# EAGLE library part LSM6DS33_IMU (library gen433)
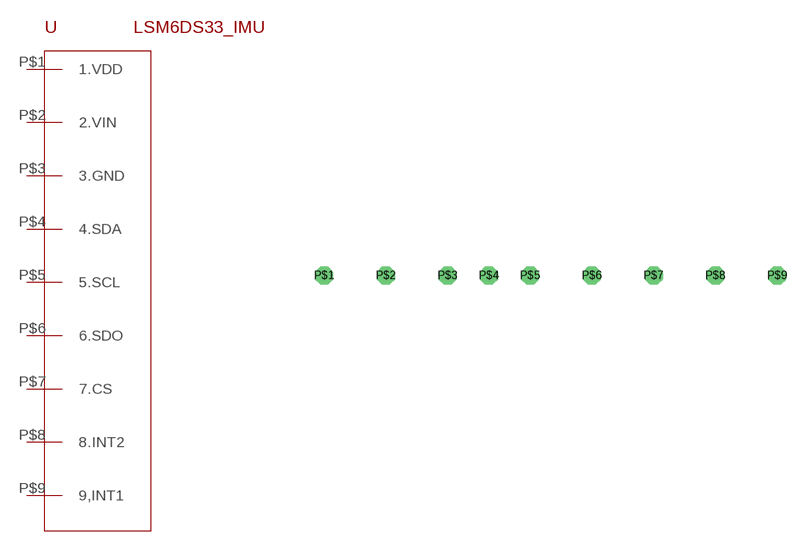
[diagram p4: symbol with the pads of LSM6DS33_IMU; footprint LSM6DS33_IMU]

Designator prefix -

## LSM6DS33_IMU  [LSM6DS33_IMU]
P$1  1.VDD
P$2  2.VIN
P$3  3.GND
P$4  4.SDA
P$5  5.SCL
P$6  6.SDO
P$7  7.CS
P$8  8.INT2
P$9  9,INT1

## Footprint LSM6DS33_IMU (pad centres in mm)
drill 0.6 octagon: P$1 -12.7,3.81; P$2 -8.89,3.81; P$3 -5.08,3.81; P$4 -2.54,3.81; P$5 0,3.81; P$6 3.81,3.81; P$7 7.62,3.81; P$8 11.43,3.81; P$9 15.24,3.81